# Altium footprint library DIODE_TH_DO41.PcbLib: 2 footprints
Each footprint in its own frame and in the unit in brackets; x right, y up, seen from the top. Pads: shape width x height; smd on the part's side, far side on the other; paste and mask are expansions set on the pad; w line width, h text height; cw(c..) or ccw(c..) is an arc to the next point about the centre after c.
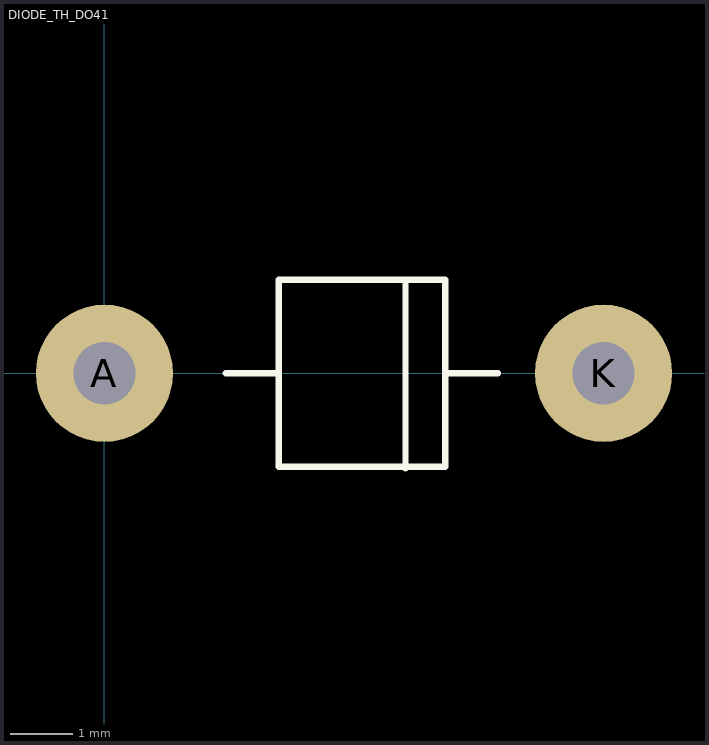
[diagram p0: the footprints below, top view; thin cyan lines are the x and y axes]

## DIODE_TH_DO41 [mm]
pads (2):
  round 2.2 hole 1: A(0,0) K(8,0)
Top Overlay:
  lines w0.1: 1.946,0 2.794,0 ; 4.826,-1.524 4.826,1.476 ; 5.461,0 6.308,0 ; 2.794,-1.5 2.794,1.5 5.461,1.5 5.461,-0.216 5.461,-1.5 2.794,-1.5

## PCBComponent_1 [mm]